# Altium integrated library LM7809ACT.IntLib: 1 symbol
Pins are listed as number, name and electrical type; pins without a type are passive.

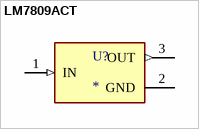
[diagram p0: symbol LM7809ACT]

## LM7809ACT
designator U?
Linear Voltage Regulator IC Positive Fixed 1 Output 1A TO-220-3; MF: ON Semiconductor; MP: LM7809ACT; Value: *; Check_prices: https://www.snapeda.com/parts/LM7809ACT/Onsemi/view-part/?ref=eda; SnapEDA_Link: https://www.snapeda.com/parts/LM7809ACT/Onsemi/view-part/?ref=snap; Availability: In Stock; Purchase-URL: https://pricing.snapeda.com/search/part/LM7809ACT/?ref=eda; Package: TO-220-3 ON Semiconductor; Price: None
footprint TO254P470X1016X1879-3P
pins: 1 IN (in), 2 GND (power), 3 OUT (out)